# Altium footprint library SparkFun-Connectors.PCBLIB: 386 footprints (part 15 of 25)
Each footprint in its own frame and in the unit in brackets; x right, y up, seen from the top. Pads: shape width x height; smd on the part's side, far side on the other; paste and mask are expansions set on the pad; w line width, h text height; cw(c..) or ccw(c..) is an arc to the next point about the centre after c.
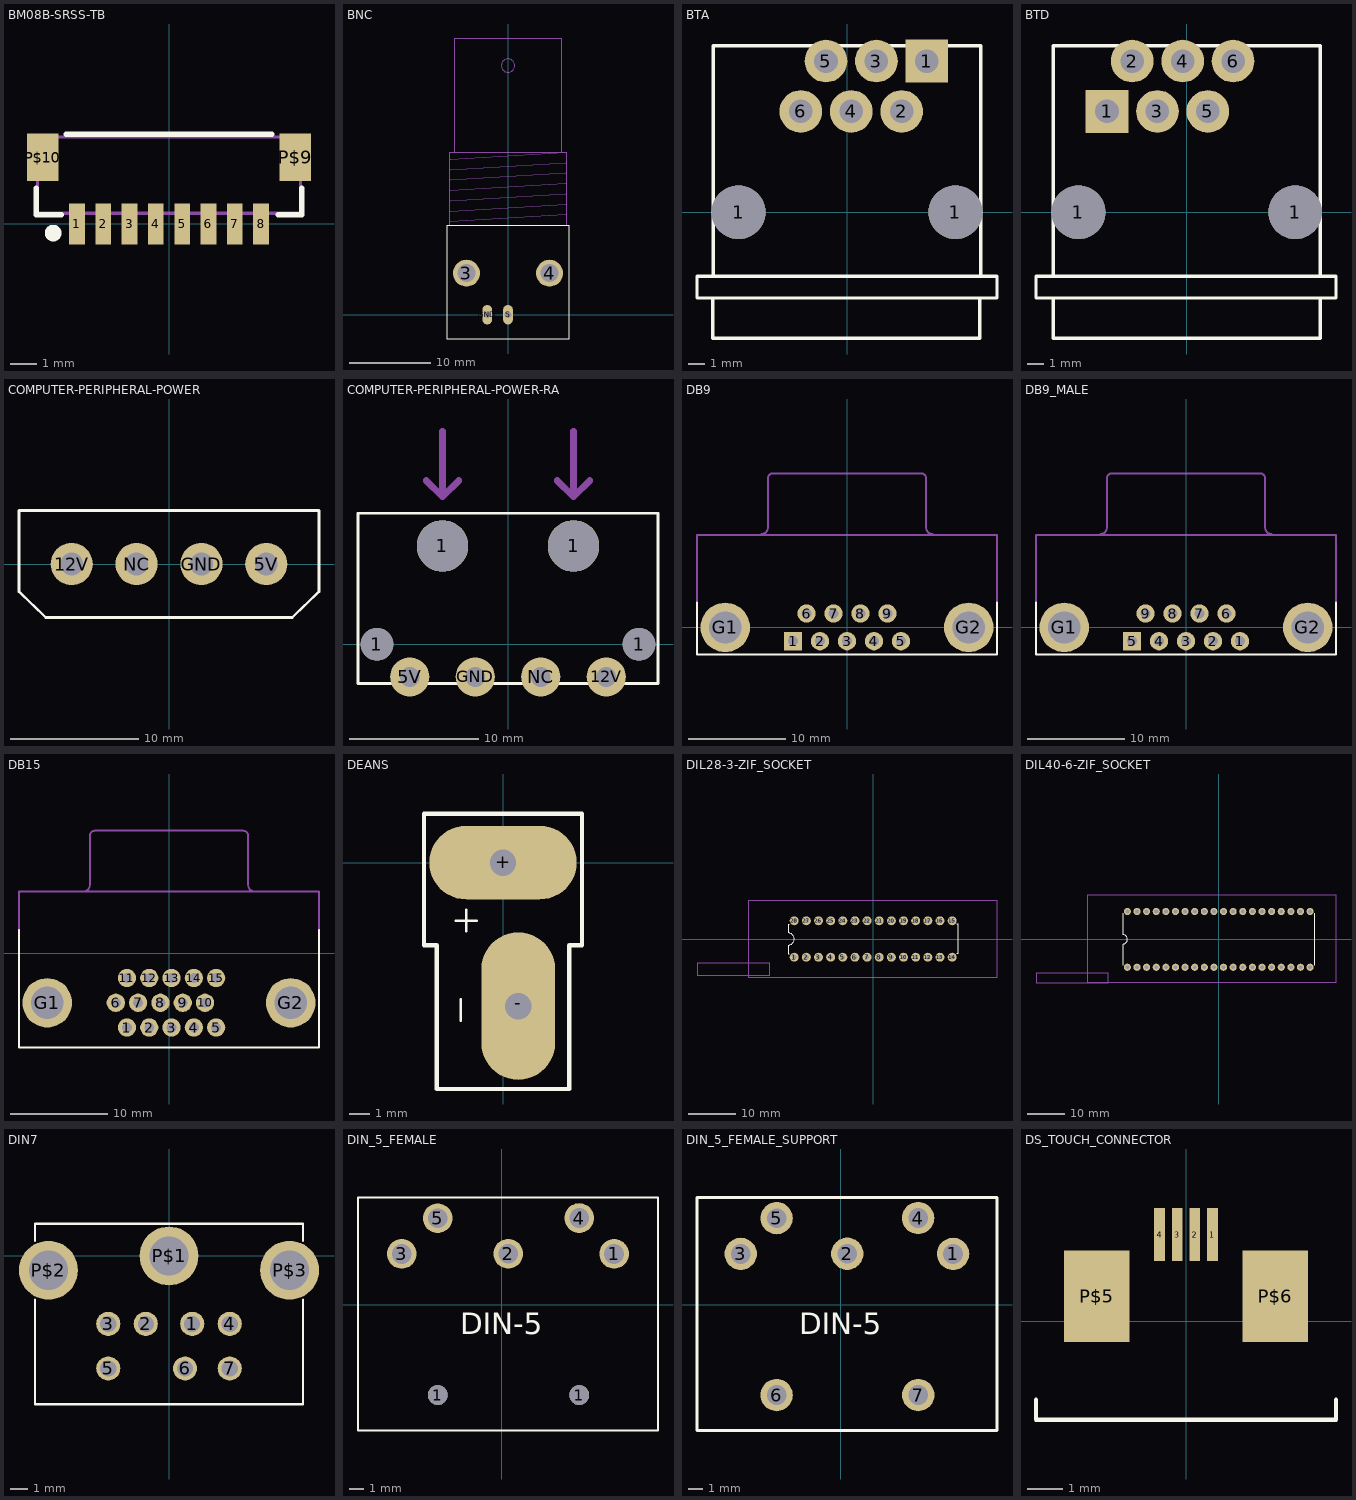
[diagram p14: the footprints below, top view; thin cyan lines are the x and y axes]

## BM08B-SRSS-TB [mm]
pads (10):
  rect 0.6x1.55 smd: 1(-3.5,0) 2(-2.5,0) 3(-1.5,0) 4(-0.5,0) 5(0.5,0) 6(1.5,0) 7(2.5,0) 8(3.5,0)
  rect 1.2x1.8 smd: P$9(4.8,2.525) P$10(-4.8,2.525)
Top Overlay:
  circle w0.406: c-4.4,-0.35 r0.112
  lines w0.203: -5.05,1.35 -5.05,0.35 -4.1,0.35 ; -3.9,3.4 3.9,3.4 ; 4.15,0.35 5.05,0.35 5.05,1.35
Mechanical 16:
  lines w0.127: -5,0.4 -5,3.3 5,3.3 5,0.4 -5,0.4

## BNC [mil]
pads (4):
  round 129.91 hole 86.61: 3(-200,200) 4(200,200)
  oval 47.25x94.5 hole 31.5: GND(-100,0) S(0,0)
Top Overlay:
  lines w5: -295,-117 295,-117 295,428 -295,428 -295,-117
Mechanical 16:
  circle w5: c0,1200 r32.2
  lines w5: -280,428 -280,783 -260,783 ; -279,449 279,483 ; -279,499 279,533 ; -279,549 279,583 ; -279,599 279,633 ; -279,649 279,683 ; -279,699 279,733 ; -279,749 279,783 ; 280,428 280,783 279,783 ; -260,783 260,783 ; -260,783 -260,1328 260,1328 260,783 ; 260,783 279,783

## BTA [mm]
pads (8):
  round 3.2 hole 3.2: 1(-6.45,0) 1(6.45,0)
  rect 2.54x2.54 hole 1.4: 1(4.75,9)
  round 2.54 hole 1.4: 2(3.25,6) 3(1.75,9) 4(0.25,6) 5(-1.25,9) 6(-2.75,6)
Top Overlay:
  lines w0.203: -8,-5.1 -8,-7.5 7.9,-7.5 7.9,-5.1 ; -8,-5.1 -8.925,-5.1 -8.925,-3.8 -7.95,-3.8 ; -8,-5.1 7.9,-5.1 ; -7.95,-3.8 -7.95,9.9 7.95,9.9 7.95,-3.8 ; -7.95,-3.8 7.95,-3.8 ; 7.9,-5.1 8.925,-5.1 8.925,-3.8 7.95,-3.8

## BTD [mm]
pads (8):
  round 3.2 hole 3.2: 1(-6.45,0) 1(6.45,0)
  rect 2.54x2.54 hole 1.4: 1(-4.75,6)
  round 2.54 hole 1.4: 2(-3.25,9) 3(-1.75,6) 4(-0.25,9) 5(1.25,6) 6(2.75,9)
Top Overlay:
  lines w0.203: -7.95,-5.1 -8.975,-5.1 -8.975,-3.8 -7.95,-3.8 ; -7.95,-5.1 7.95,-5.1 ; -7.95,-5.1 -7.95,-7.5 7.95,-7.5 7.95,-5.1 ; -7.95,-3.8 -7.95,9.9 7.95,9.9 7.95,-3.8 ; -7.95,-3.8 7.95,-3.8 ; 7.95,-5.1 8.875,-5.1 8.875,-3.8 7.95,-3.8

## COMPUTER-PERIPHERAL-POWER [mil]
pads (4):
  round 130 hole 70: 5V(300,0) 12V(-300,0) GND(100,0) NC(-100,0)
Top Overlay:
  lines w8: -462.5,-85 -380,-165 380,-165 462.5,-85 462.5,165 -462.5,165 -462.5,-85

## COMPUTER-PERIPHERAL-POWER-RA [mil]
pads (8):
  round 100 hole 100: 1(-400,0) 1(400,0)
  round 157 hole 157: 1(-200,300) 1(200,300)
  round 120 hole 60: 5V(-300,-100) 12V(300,-100) GND(-100,-100) NC(100,-100)
Top Overlay:
  lines w8: -350,-120 -458,-120 -458,400 458,400 458,-120 350,-120 ; -250,-120 -150,-120 ; -50,-120 50,-120 ; 150,-120 250,-120
Mechanical 16:
  lines w8: -458,-120 458,-120
  lines w20: -250,500 -200,450 ; -200,650 -200,450 ; -150,500 -200,450 ; 150,500 200,450 ; 200,650 200,450 ; 250,500 200,450
  text "INSERT" at -120,525 h77.5

## DB9 [mil]
pads (11):
  rect 74x74 hole 40: 1(-218.11,-55.91)
  round 74 hole 40: 2(-109.06,-55.91) 3(0,-55.91) 4(109.06,-55.91) 5(218.11,-55.91) 6(-163.39,55.91) 7(-54.33,55.91) 8(54.33,55.91) 9(163.39,55.91)
  round 200 hole 130: G1(-492.13,0) G2(492.13,0)
Top Overlay:
  lines w8: -606.3,100 -606.3,-110.24 606.3,-110.24 606.3,100
Mechanical 16:
  lines w8: -606.3,100.1 -606.3,374.02 606.3,374.02 606.3,100 ; -345,377.32 ccw(c-345,402.32) -320,402.32 -320,602.32 cw(c-300,602.32) -300,622.32 300,622.32 cw(c300,602.32) 320,602.32 320,402.32 ccw(c345,402.32) 345,377.32

## DB9_MALE [mil]
pads (11):
  round 74 hole 40: 1(218.11,-55.91) 2(109.06,-55.91) 3(0,-55.91) 4(-109.06,-55.91) 6(163.39,55.91) 7(54.33,55.91) 8(-54.33,55.91) 9(-163.39,55.91)
  rect 74x74 hole 40: 5(-218.11,-55.91)
  round 200 hole 130: G1(-492.13,0) G2(492.13,0)
Top Overlay:
  lines w8: -606.3,100 -606.3,-110.24 606.3,-110.24 606.3,100
Mechanical 16:
  lines w8: -606.3,100.1 -606.3,374.02 606.3,374.02 606.3,100 ; -345,377.32 ccw(c-345,402.32) -320,402.32 -320,602.32 cw(c-300,602.32) -300,622.32 300,622.32 cw(c300,602.32) 320,602.32 320,402.32 ccw(c345,402.32) 345,377.32

## DB15 [mil]
pads (17):
  round 74 hole 40: 1(-170.08,-300) 2(-79.92,-300) 3(10.24,-300) 4(100.39,-300) 5(190.55,-300) 6(-214.96,-200) 7(-124.8,-200) 8(-34.65,-200) 9(55.51,-200) 10(145.67,-200) 11(-170.08,-100) 12(-79.92,-100) 13(10.24,-100) 14(100.39,-100) 15(190.55,-100)
  round 200 hole 130: G1(-492.13,-200) G2(492.13,-200)
Top Overlay:
  lines w8: -606.3,93.7 -606.3,-379.92 606.3,-379.92 606.3,93.7
Mechanical 16:
  lines w8: -606.3,93.7 -606.3,250 606.3,250 606.3,93.7 ; -345,250.55 ccw(c-345,275.55) -320,275.55 -320,475.55 cw(c-300,475.55) -300,495.55 300,495.55 cw(c300,475.55) 320,475.55 320,275.55 ccw(c345,275.55) 345,250.55

## DEANS [mil]
pads (2):
  oval 280x140 hole 50: +(0,0)
  oval 140x280 hole 50: -(29,-272.5)
Top Overlay:
  lines w5: -90,-110 -50,-110 ; -80,-300 -80,-260 ; -70,-130 -70,-90
  lines w8: -150,-157 -150,93 150,93 150,-157 126,-157 126,-430 -126,-430 -126,-157 -150,-157
Mechanical 1:
  lines w5: -112,-27 112,-27 112,27 -112,27 -112,-27 ; 2,-384 2,-160 56,-160 56,-384 2,-384

## DIL28-3-ZIF_SOCKET [mil]
pads (28):
  round 74 hole 40: 1(-650,-150) 2(-550,-150) 3(-450,-150) 4(-350,-150) 5(-250,-150) 6(-150,-150) 7(-50,-150) 8(50,-150) 9(150,-150) 10(250,-150) 11(350,-150) 12(450,-150) 13(550,-150) 14(650,-150) 15(650,150) 16(550,150) 17(450,150) 18(350,150) 19(250,150) 20(150,150) 21(50,150) 22(-50,150) 23(-150,150) 24(-250,150) 25(-350,150) 26(-450,150) 27(-550,150) 28(-650,150)
Top Overlay:
  lines w8: -690,-120 -700,-120 -700,-50 ccw(c-700,0) -700,50 -700,120 -690,120 ; 690,-120 700,-120 700,120 690,120
Mechanical 16:
  lines w5: -1027.99,-314.96 1019.25,-314.96 1019.25,314.96 -1027.99,314.96 -1027.99,-314.96
  lines w10: -1450,-300 -1450,-200 -850,-200 -850,-300 -1450,-300

## DIL40-6-ZIF_SOCKET [mil]
pads (40):
  round 74 hole 40: 1(-950,-290) 2(-850,-290) 3(-750,-290) 4(-650,-290) 5(-550,-290) 6(-450,-290) 7(-350,-290) 8(-250,-290) 9(-150,-290) 10(-50,-290) 11(50,-290) 12(150,-290) 13(250,-290) 14(350,-290) 15(450,-290) 16(550,-290) 17(650,-290) 18(750,-290) 19(850,-290) 20(950,-290) 21(950,290) 22(850,290) 23(750,290) 24(650,290) 25(550,290) 26(450,290) 27(350,290) 28(250,290)
  round 74 hole 43.31: 29(150,290) 30(50,290) 31(-50,290) 32(-150,290) 33(-250,290) 34(-350,290) 35(-450,290) 36(-550,290) 37(-650,290) 38(-750,290) 39(-850,290) 40(-950,290)
Top Overlay:
  lines w8: -1000,-270 -1000,-50 ccw(c-1000,0) -1000,50 -1000,270 ; 1000,-270 1000,270
Mechanical 16:
  lines w10: -1900,-450 -1900,-350 -1150,-350 -1150,-450 -1900,-450 ; -1368.58,-448.07 1219.21,-448.07 1219.21,457.44 -1368.58,457.44 -1368.58,-448.07

## DIN7 [mil]
pads (10):
  round 53.15 hole 35.43: 1(51.18,-149.61) 2(-51.18,-149.61) 3(-133.86,-149.61) 4(133.86,-149.61) 5(-133.86,-248.03) 6(35.43,-248.03) 7(133.86,-248.03)
  round 129.91 hole 86.61: P$1(0,0) P$2(-265.75,-31.5) P$3(265.75,-31.5)
Top Overlay:
  lines w5: -295.28,-96.46 -295.28,-326.77 295.28,-326.77 295.28,-96.46 ; -295.28,33.46 -295.28,70.87 295.28,70.87 295.28,33.46

## DIN_5_FEMALE [mm]
pads (7):
  round 1.4 hole 1.4: 1(-4.52,-6.38) 1(5.47,-6.38)
  round 2.1 hole 1.4: 1(7.94,3.6) 2(0.46,3.61) 3(-7.07,3.6) 4(5.47,6.13) 5(-4.53,6.12)
Top Overlay:
  lines w0.127: -10.16,-8.89 11.04,-8.89 11.04,7.59 -10.16,7.59 -10.16,-8.89
  text "DIN-5" at -2.94,-2.56 h2.6
Mechanical 16:
  lines w0.09: 0.44,3.6 0.46,3.6

## DIN_5_FEMALE_SUPPORT [mil]
pads (7):
  round 90 hole 55.12: 1(312.6,141.73) 2(18.11,142.13) 3(-278.35,141.73) 4(215.35,241.34) 5(-178.35,240.94) 6(-178.35,-251.27) 7(215.65,-251.27)
Top Overlay:
  lines w8: -400,-350 434.65,-350 434.65,298.82 -400,298.82 -400,-350
  text "DIN-5" at -115.75,-100.79 h102.3
Mechanical 16:
  lines w3.54: 17.32,141.73 18.11,141.73

## DS_TOUCH_CONNECTOR [mm]
pads (6):
  rect 0.3x1.5 smd: 1(0.75,2.45) 2(0.25,2.45) 3(-0.25,2.45) 4(-0.75,2.45)
  rect 1.85x2.6 smd: P$5(-2.525,0.7) P$6(2.525,0.7)
Top Overlay:
  lines w0.127: -4.25,-2.23 -4.25,-2.8 4.25,-2.8 4.25,-2.23